# Altium footprint library Topping_L50.PcbLib: 20 footprints (part 1 of 2)
Each footprint in its own frame and in the unit in brackets; x right, y up, seen from the top. Pads: shape width x height; smd on the part's side, far side on the other; paste and mask are expansions set on the pad; w line width, h text height; cw(c..) or ccw(c..) is an arc to the next point about the centre after c.
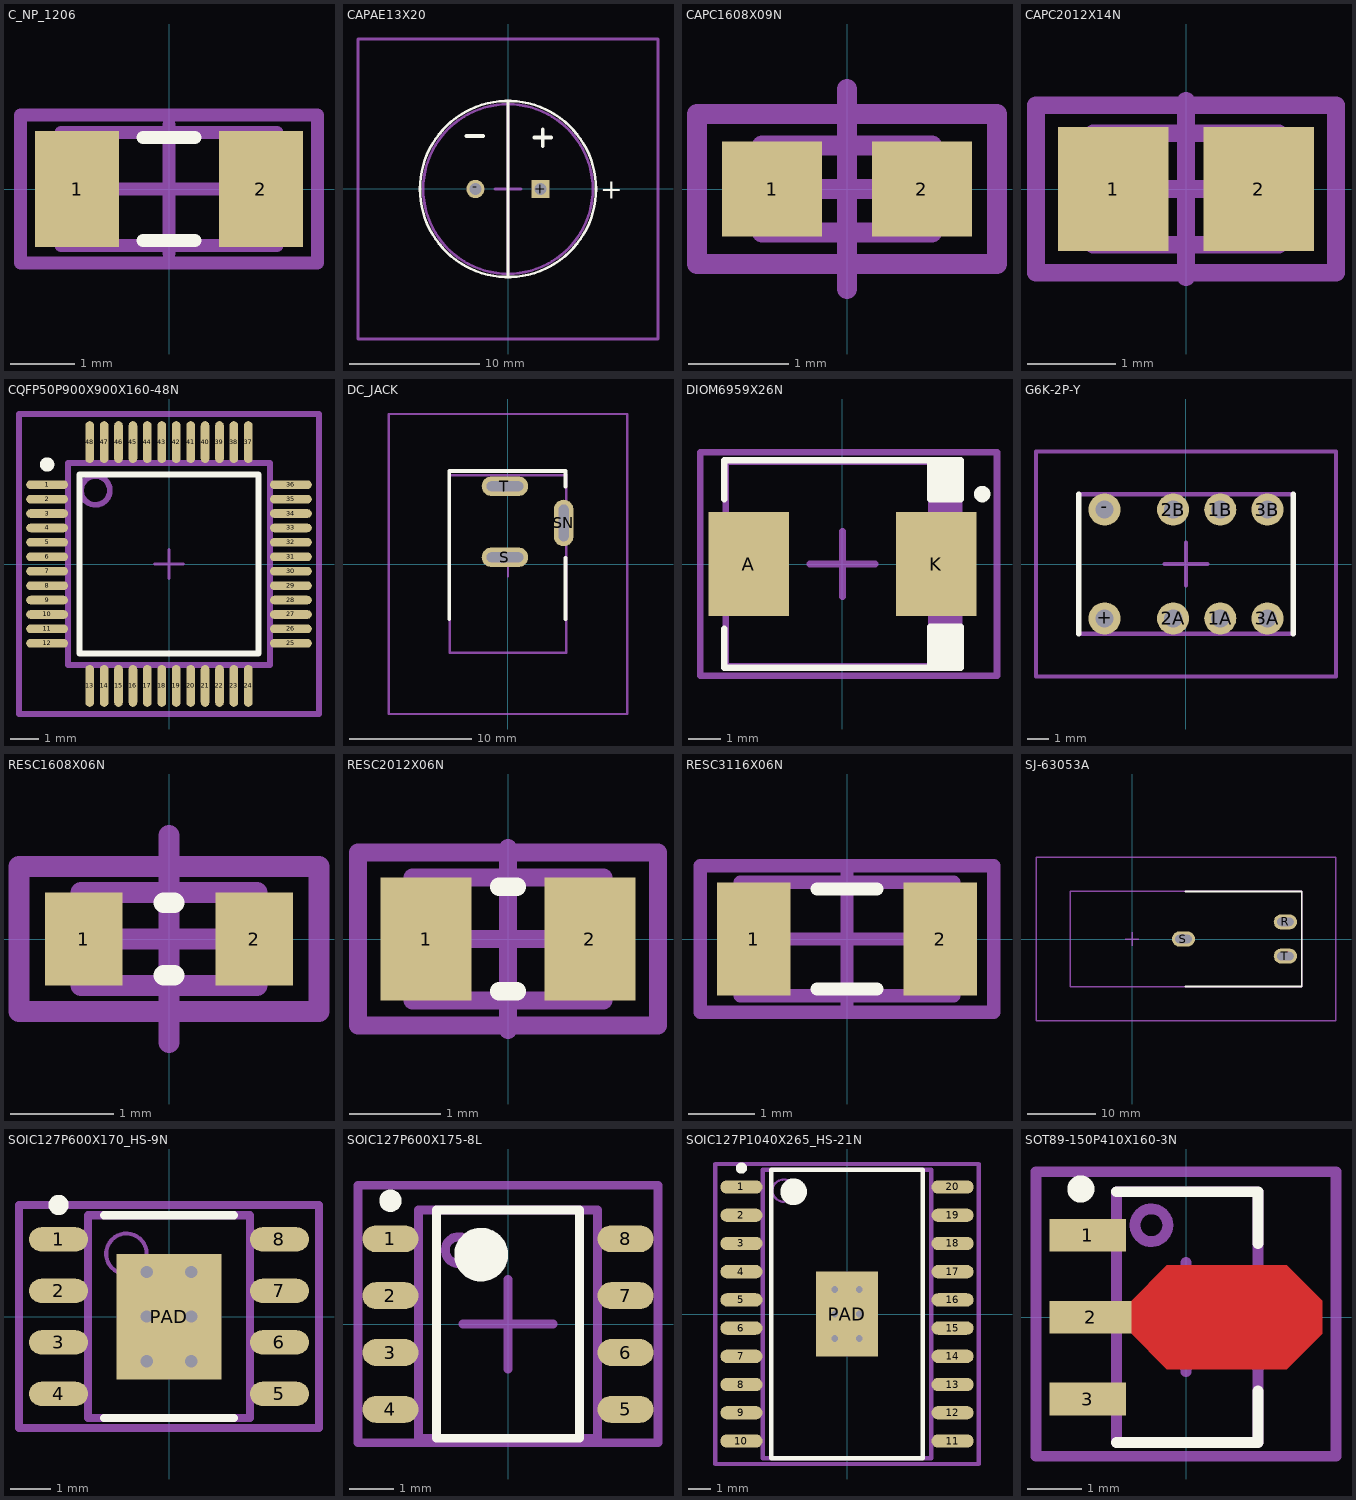
[diagram p0: the footprints below, top view; thin cyan lines are the x and y axes]

## C_NP_1206 [mm]
pads (2):
  rect 1.3x1.8 smd: 1(-1.425,0) 2(1.425,0)
Top Overlay:
  lines w0.2: -0.4,-0.8 0.4,-0.8 ; -0.4,0.8 0.4,0.8
Designator:
  text ".Designator" at -4.998,-0.333 h1
Assembly:
  lines w0.2: -1.675,-0.875 1.675,-0.875 1.675,0.875 -1.675,0.875 -1.675,-0.875
Courtyard:
  lines w0.2: -2.3,-1.15 2.3,-1.15 2.3,1.15 -2.3,1.15 -2.3,-1.15
Component Center:
  lines w0.2: -1,0 1,0 ; 0,-1 0,1
3D body: height 1.35, standoff 0, extent 1.175,-0.875 1.675,0.875
3D body: height 1.35, standoff 0, extent -1.675,-0.875 -1.175,0.875
3D body: height 1.35, standoff 0, extent -1.175,-0.875 1.175,0.875

## CAPAE13X20 [mm]
pads (2):
  rect 1.4x1.4 hole 0.9: +(2.5,0)
  round 1.4 hole 0.9: -(-2.5,0)
Top Overlay:
  circle w0.2: c0,0 r6.75
  lines w0.2: 0,-6.731 0,6.731
  lines w0.3: -3.175,4.064 -1.905,4.064 ; 2.032,3.937 3.302,3.937 ; 2.667,3.302 2.667,4.572
  text "+" at 7.075,-0.737 h1.5
Designator:
  text ".Designator" at -14.995,-1 h3
Assembly:
  circle w0.2: c0,0 r6.5
  lines w0.2: -3.175,4.064 -1.905,4.064 ; 0,-6.35 0,0 0,6.35 ; 2.032,3.937 3.302,3.937 ; 2.667,3.302 2.667,4.572
Courtyard:
  lines w0.2: -11.5,-11.5 11.5,-11.5 11.5,11.5 -11.5,11.5 -11.5,-11.5
Component Center:
  lines w0.2: -1,0 1,0 ; 0,-1 0,1
3D body "User Library-Electrolytic capacitro Radial 13X21_RM5.step": height 21.2, standoff -2.8, extent -6.101,-6.1 6.1,6.1

## CAPC1608X09N [mm]
pads (2):
  rect 1x0.95 smd: 1(-0.75,0) 2(0.75,0)
Designator:
  text ".Designator" at -2.499,-0.167 h0.5
Assembly:
  lines w0.2: -0.85,-0.435 -0.85,0.435 0.85,0.435 0.85,-0.435 -0.85,-0.435
Courtyard:
  lines w0.2: -1.5,-0.75 -1.5,0.75 1.5,0.75 1.5,-0.75 -1.5,-0.75
Component Center:
  lines w0.2: -1,0 1,0 ; 0,-1 0,1
3D body: height 0.87, standoff 0, extent -0.5,-0.435 0.5,0.435
3D body: height 0.87, standoff 0, extent -0.85,-0.435 -0.5,0.435
3D body: height 0.87, standoff 0, extent 0.5,-0.435 0.85,0.435

## CAPC2012X14N [mm]
pads (2):
  rect 1.25x1.4 smd: 1(-0.825,0) 2(0.825,0)
Designator:
  text ".Designator" at -4.998,-0.333 h1
Assembly:
  lines w0.2: -1.05,-0.63 1.05,-0.63 1.05,0.63 -1.05,0.63 -1.05,-0.63
Courtyard:
  lines w0.2: -1.7,-0.95 1.7,-0.95 1.7,0.95 -1.7,0.95 -1.7,-0.95
Component Center:
  lines w0.2: -1,0 1,0 ; 0,-1 0,1
3D body: height 1.35, standoff 0, extent -0.55,-0.63 0.55,0.63
3D body: height 1.35, standoff 0, extent 0.55,-0.63 1.05,0.63
3D body: height 1.35, standoff 0, extent -1.05,-0.63 -0.55,0.63

## CQFP50P900X900X160-48N [mm] "CQFP, 48-Leads, Body 9,00x9,00mm, Pitch 0,50mm, IPC Medium Density"
height 1.6
pads (48):
  oval 1.45x0.3 smd: 1(-4.225,2.75) 2(-4.225,2.25) 3(-4.225,1.75) 4(-4.225,1.25) 5(-4.225,0.75) 6(-4.225,0.25) 7(-4.225,-0.25) 8(-4.225,-0.75) 9(-4.225,-1.25) 10(-4.225,-1.75) 11(-4.225,-2.25) 12(-4.225,-2.75) 25(4.225,-2.75) 26(4.225,-2.25) 27(4.225,-1.75) 28(4.225,-1.25) 29(4.225,-0.75) 30(4.225,-0.25) 31(4.225,0.25) 32(4.225,0.75) 33(4.225,1.25) 34(4.225,1.75) 35(4.225,2.25) 36(4.225,2.75)
  oval 0.3x1.45 smd: 13(-2.75,-4.225) 14(-2.25,-4.225) 15(-1.75,-4.225) 16(-1.25,-4.225) 17(-0.75,-4.225) 18(-0.25,-4.225) 19(0.25,-4.225) 20(0.75,-4.225) 21(1.25,-4.225) 22(1.75,-4.225) 23(2.25,-4.225) 24(2.75,-4.225) 37(2.75,4.225) 38(2.25,4.225) 39(1.75,4.225) 40(1.25,4.225) 41(0.75,4.225) 42(0.25,4.225) 43(-0.25,4.225) 44(-0.75,4.225) 45(-1.25,4.225) 46(-1.75,4.225) 47(-2.25,4.225) 48(-2.75,4.225)
Top Overlay:
  circle w0.25: c-4.225,3.45 r0.125
  lines w0.2: -3.1,-3.1 -3.1,3.1 3.1,3.1 3.1,-3.1 -3.1,-3.1
Designator:
  text ".Designator" at -4.998,-0.333 h1
Assembly:
  circle w0.2: c-2.55,2.55 r0.5
  lines w0.2: -3.5,-3.5 -3.5,3.5 3.5,3.5 3.5,-3.5 -3.5,-3.5
Courtyard:
  lines w0.2: -5.2,-5.2 -5.2,5.2 5.2,5.2 5.2,-5.2 -5.2,-5.2
Component Center:
  lines w0.1: -0.5,0 0.5,0 ; 0,-0.5 0,0.5
3D body: height 1.6, standoff 0.05, extent -3.5,-3.5 3.5,3.5

## DC_JACK [mm]
pads (3):
  oval 3.8x1.6 hole 0.8 slot 3 at 0 deg: S(-0.25,0.55) T(-0.25,6.35)
  oval 1.6x3.8 hole 0.8 slot 3 at 90 deg: SN(4.55,3.35)
Top Overlay:
  lines w0.3: -4.8,-4.5 -4.8,7.6 4.7,7.6 4.7,6.3 ; 4.7,-4.5 4.7,0.5
Designator:
  text ".Designator" at -12.496,-0.833 h2.5
Assembly:
  lines w0.2: -4.75,-7.25 4.75,-7.25 4.75,7.25 -4.75,7.25 -4.75,-7.25
Courtyard:
  lines w0.2: -9.75,-12.25 9.75,-12.25 9.75,12.25 -9.75,12.25 -9.75,-12.25
Component Center:
  lines w0.2: -1,0 1,0 ; 0,-1 0,1
3D body "694108301002 (rev1).stp": height 10.75, standoff -3.75, extent -4.75,-7.25 4.75,7.25

## DIOM6959X26N [mm]
pads (2):
  rect 2.45x3.15 smd: A(-2.85,0) K(2.85,0)
Top Overlay:
  circle w0.25: c4.25,2.125 r0.125
  rectangle: 2.667,1.975 3.6,3.048
  rectangle: 2.667,-3.15 3.6,-1.905
  lines w0.2: -3.6,-1.975 -3.6,-3.15 3.6,-3.15 ; -3.6,1.975 -3.6,3.15 3.6,3.15 3.6,1.975 ; 3.6,-1.975 3.6,-3.15 ; 3.6,-3.15 3.6,-1.905 2.667,-1.905 2.667,-3.15 3.6,-3.15 ; 3.6,1.975 3.6,3.048 2.667,3.048 2.667,1.975 3.6,1.975
Designator:
  text ".Designator" at -14.995,-1 h3
Assembly:
  rectangle: 2.599,-3.11 3.555,3.11
  lines w0.2: -3.555,-3.11 -3.555,3.11 3.555,3.11 3.555,-3.11 -3.555,-3.11
Courtyard:
  lines w0.2: -4.325,-3.4 -4.325,3.4 4.699,3.4 4.699,-3.4 -4.325,-3.4
Component Center:
  lines w0.2: -1,0 1,0 ; 0,-1 0,1
3D body "User Library-DO-214AB SMC.step": height 2.3, standoff 0, extent -3.975,-2.95 3.975,2.95

## G6K-2P-Y [mm]
pads (8):
  round 1.5 hole 0.85: 1A(1.6,-2.54) 1B(1.6,2.54) 2A(-0.6,-2.54) 2B(-0.6,2.54) 3A(3.8,-2.54) 3B(3.8,2.54) +(-3.8,-2.54) -(-3.8,2.54)
Top Overlay:
  lines w0.254: -5,-3.25 -5,3.25 ; 5,-3.25 5,3.25
Designator:
  text ".Designator" at -14.995,-1 h3
Assembly:
  lines w0.2: -5,-3.25 -5,3.25 5,3.25 5,-3.25 -5,-3.25
Courtyard:
  lines w0.2: -7,-5.25 -7,5.25 7,5.25 7,-5.25 -7,-5.25
Component Center:
  lines w0.2: -1,0 1,0 ; 0,-1 0,1
3D body "G6K_2P_Y.step": height 5, standoff -3.5, extent -5,-3.198 5,3.302

## RESC1608X06N [mm]
pads (2):
  rect 0.75x0.9 smd: 1(-0.825,0) 2(0.825,0)
Top Overlay:
  lines w0.2: -0.05,-0.35 0.05,-0.35 ; -0.05,0.35 0.05,0.35
Designator:
  text ".Designator" at -2.999,-0.2 h0.6
Assembly:
  lines w0.2: -0.85,-0.45 -0.85,0.45 0.85,0.45 0.85,-0.45 -0.85,-0.45
Courtyard:
  lines w0.2: -1.45,-0.7 -1.45,0.7 1.45,0.7 1.45,-0.7 -1.45,-0.7
Component Center:
  lines w0.2: -1,0 1,0 ; 0,-1 0,1
3D body "User Library-res0603-1.step": height 0.4, standoff 0, extent -0.8,-0.4 0.8,0.4

## RESC2012X06N [mm]
pads (2):
  rect 1x1.35 smd: 1(-0.9,0) 2(0.9,0)
Top Overlay:
  lines w0.2: -0.1,-0.575 0.1,-0.575 ; -0.1,0.575 0.1,0.575
Designator:
  text ".Designator" at -2.999,-0.2 h0.6
Assembly:
  lines w0.2: -1.05,-0.675 1.05,-0.675 1.05,0.675 -1.05,0.675 -1.05,-0.675
Courtyard:
  lines w0.2: -1.65,-0.95 1.65,-0.95 1.65,0.95 -1.65,0.95 -1.65,-0.95
Component Center:
  lines w0.2: -1,0 1,0 ; 0,-1 0,1
3D body "User Library-CRS0805.step": height 0.5, standoff 0, extent -1,-0.625 1,0.625

## RESC3116X06N [mm]
pads (2):
  rect 1.1x1.7 smd: 1(-1.4,0) 2(1.4,0)
Top Overlay:
  lines w0.2: -0.45,-0.75 0.45,-0.75 ; -0.45,0.75 0.45,0.75
Designator:
  text ".Designator" at -3.999,-0.267 h0.8
Assembly:
  lines w0.2: -1.6,-0.85 1.6,-0.85 1.6,0.85 -1.6,0.85 -1.6,-0.85
Courtyard:
  lines w0.2: -2.2,-1.1 2.2,-1.1 2.2,1.1 -2.2,1.1 -2.2,-1.1
Component Center:
  lines w0.2: -1,0 1,0 ; 0,-1 0,1
3D body "User Library-RES_3216-1206.step": height 0.85, standoff 0, extent -1.675,-0.865 1.675,0.865

## SJ-63053A [mm] "6.35 mm, Stereo, Right Angle, Through Hole Mount, 3 Conductors, 0 Internal Switches, Audio Jack Connector"
pads (3):
  oval 3.4x2.2 hole 1.2 slot 2.4 at 0 deg: R(22.4,2.5) S(7.5,0) T(22.4,-2.5)
Top Overlay:
  lines w0.254: 7.8,-6.95 24.8,-6.95 24.8,6.95 7.8,6.95
Designator:
  text ".Designator" at -19.994,-1.333 h4
Assembly:
  lines w0.2: -9.05,-6.95 24.8,-6.95 24.8,6.95 -9.05,6.95 -9.05,-6.95
Courtyard:
  lines w0.2: -14.05,-11.95 29.8,-11.95 29.8,11.95 -14.05,11.95 -14.05,-11.95
Component Center:
  lines w0.2: -1,0 1,0 ; 0,-1 0,1
3D body "Same_Sky_SJ-63053A.step": height 12.6, standoff -4, extent -9.05,-6.95 24.8,6.95

## SOIC127P600X170_HS-9N [mm] "SOIC, 8-Leads, Body 4,90x3,90mm, Pitch 1,27mm, Thermal Pad 3,10x2,60mm, IPC Medium Density"
height 1.7
pads (9):
  oval 1.45x0.6 smd: 1(-2.725,1.905) 2(-2.725,0.635) 3(-2.725,-0.635) 4(-2.725,-1.905) 5(2.725,-1.905) 6(2.725,-0.635) 7(2.725,0.635) 8(2.725,1.905)
  rect 2.6x3.1 smd: PAD(0,0)
via 0.55,-1.1 diameter 0.7 hole 0.3
via -0.55,-1.1 diameter 0.7 hole 0.3
via 0.55,0 diameter 0.7 hole 0.3
via -0.55,0 diameter 0.7 hole 0.3
via 0.55,1.1 diameter 0.7 hole 0.3
via -0.55,1.1 diameter 0.7 hole 0.3
Top Overlay:
  circle w0.25: c-2.725,2.755 r0.125
  lines w0.2: -1.6,-2.5 1.6,-2.5 ; -1.6,2.5 1.6,2.5
Designator:
  text ".Designator" at -4.998,-0.333 h1
Assembly:
  circle w0.1: c-1.05,1.55 r0.5
  lines w0.2: -2,-2.5 2,-2.5 2,2.5 -2,2.5 -2,-2.5
Courtyard:
  lines w0.2: -3.7,-2.75 3.7,-2.75 3.7,2.75 -3.7,2.75 -3.7,-2.75
Component Center:
  lines w0.1: -0.5,0 0.5,0 ; 0,-0.5 0,0.5
3D body "User Library-so8-3.step": height 1.7, standoff 0, extent -3,-2.45 3,2.45

## SOIC127P600X175-8L [mm] "SOIC, 8-Leads, Body 4,90x3,90mm, Pitch 1,27mm, IPC High Density"
height 1.75
pads (8):
  oval 1.25x0.6 smd: 1(-2.625,1.905) 2(-2.625,0.635) 3(-2.625,-0.635) 4(-2.625,-1.905) 5(2.625,-1.905) 6(2.625,-0.635) 7(2.625,0.635) 8(2.625,1.905)
Top Overlay:
  circle w0.6: c-0.6,1.55 r0.3
  circle w0.25: c-2.625,2.755 r0.125
  lines w0.2: -1.6,-2.55 1.6,-2.55 1.6,2.55 -1.6,2.55 -1.6,-2.55
Designator:
  text ".Designator" at -3.999,-0.267 h0.8
Assembly:
  circle w0.2: c-1.1,1.65 r0.3
  lines w0.2: -2,-2.55 2,-2.55 2,2.55 -2,2.55 -2,-2.55
Courtyard:
  lines w0.2: -3.35,-2.65 3.35,-2.65 3.35,3.1 -3.35,3.1 -3.35,-2.65
Component Center:
  lines w0.2: -1,0 1,0 ; 0,-1 0,1
3D body "User Library-so8-3.step": height 1.7, standoff 0, extent -3,-2.45 3,2.45

## SOIC127P1040X265_HS-21N [mm] "SOIC, 20-Leads, Body 12,83x7,52mm, Pitch 1,27mm, Thermal Pad 3,81x2,79mm, IPC Medium Density"
height 2.65
pads (21):
  oval 1.9x0.6 smd: 1(-4.75,5.715) 2(-4.75,4.445) 3(-4.75,3.175) 4(-4.75,1.905) 5(-4.75,0.635) 6(-4.75,-0.635) 7(-4.75,-1.905) 8(-4.75,-3.175) 9(-4.75,-4.445) 10(-4.75,-5.715) 11(4.75,-5.715) 12(4.75,-4.445) 13(4.75,-3.175) 14(4.75,-1.905) 15(4.75,-0.635) 16(4.75,0.635) 17(4.75,1.905) 18(4.75,3.175) 19(4.75,4.445) 20(4.75,5.715)
  rect 2.79x3.81 smd: PAD(0,0)
via 0.55,-1.1 diameter 0.7 hole 0.3
via -0.55,-1.1 diameter 0.7 hole 0.3
via 0.55,0 diameter 0.7 hole 0.3
via -0.55,0 diameter 0.7 hole 0.3
via 0.55,1.1 diameter 0.7 hole 0.3
via -0.55,1.1 diameter 0.7 hole 0.3
Top Overlay:
  circle w0.6: c-2.4,5.5 r0.3
  circle w0.25: c-4.75,6.565 r0.125
  lines w0.2: -3.4,-6.5 3.4,-6.5 3.4,6.5 -3.4,6.5 -3.4,-6.5
Designator:
  text ".Designator" at -9.997,-0.666 h2
Assembly:
  circle w0.1: c-2.85,5.55 r0.5
  lines w0.2: -3.8,-6.5 3.8,-6.5 3.8,6.5 -3.8,6.5 -3.8,-6.5
Courtyard:
  lines w0.2: -5.925,-6.75 5.925,-6.75 5.925,6.75 -5.925,6.75 -5.925,-6.75
Component Center:
  lines w0.1: -0.5,0 0.5,0 ; 0,-0.5 0,0.5
3D body "User Library-SOIC20.step": height 2.23, standoff -0.01, extent -5.067,-6.3 5.067,6.3

## SOT89-150P410X160-3N [mm]
pads (3):
  rect 1.4x0.6 smd: 1(-1.8,1.5) 3(-1.8,-1.5)
  rect 1.5x0.6 smd: 2(-1.75,0)
Top Layer:
  region: -1.016,0.284 -0.35,0.95 1.85,0.95 2.5,0.3 2.5,-0.3 1.85,-0.95 -0.35,-0.95 -1.016,-0.284
Top Overlay:
  circle w0.25: c-1.928,2.35 r0.125
  lines w0.2: -1.278,-2.3 1.322,-2.3 1.322,-1.35 ; -1.278,2.3 1.322,2.3 1.322,1.35
Designator:
  text ".Designator" at -0.5,7.498 h1.5
Assembly:
  circle w0.2: c-0.633,1.686 r0.3
  lines w0.2: -1.278,-2.3 1.322,-2.3 1.322,2.3 -1.278,2.3 -1.278,-2.3
Courtyard:
  lines w0.2: -2.75,-2.55 2.75,-2.55 2.75,2.667 -2.75,2.667 -2.75,-2.55
Component Center:
  lines w0.2: -1,0 1,0 ; 0,-1 0,1
3D body "User Library-SOT89.STEP": height 1.62, standoff 0.01, extent -2.308,-2.281 1.942,2.319